# Altium schematic symbol library push_button.SchLib: 1 symbol
Pins are listed as number, name and electrical type; pins without a type are passive.

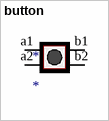
[diagram p0: symbol button]

## button
designator *
footprint push_button
pins: a1, a2, b1, b2